# EAGLE library part HEADER20X1 (library CONNECTORS)
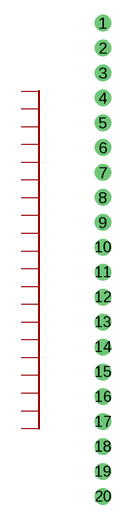
[diagram p5: symbol with the pads of HEADER20X1_.1; footprint HEADER20X1_.1]

Designator prefix -

## HEADER20X1  [HEADER20X1_.1]
1  1
2  2
3  3
4  4
5  5
6  6
7  7
8  8
9  9
10  10
11  11
12  12
13  13
14  14
15  15
16  16
17  17
18  18
19  19
20  20

## Footprint HEADER20X1_.1 (pad centres in mm)
drill 1.016 pad 1.676: 1 0,24.13; 2 0,21.59; 3 0,19.05; 4 0,16.51; 5 0,13.97; 6 0,11.43; 7 0,8.89; 8 0,6.35; 9 0,3.81; 10 0,1.27; 11 0,-1.27; 12 0,-3.81; 13 0,-6.35; 14 0,-8.89; 15 0,-11.43; 16 0,-13.97; 17 0,-16.51; 18 0,-19.05; 19 0,-21.59; 20 0,-24.13